# Altium schematic symbol library SCH - POWER - LINEAR VREG - ONSEMI NCV8135.SchLib: 1 symbol
Pins are listed as number, name and electrical type; pins without a type are passive.

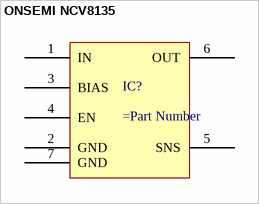
[diagram p0: symbol ONSEMI NCV8135]

## ONSEMI NCV8135
designator IC?
pins: 1 IN, 2 GND, 3 BIAS, 4 EN, 5 SNS, 6 OUT, 7 GND